# EAGLE library part UBLOXLIB_NEO-M8 (library NEO-M8N+BMP280 Wing)
u-blox NEO GNSS module
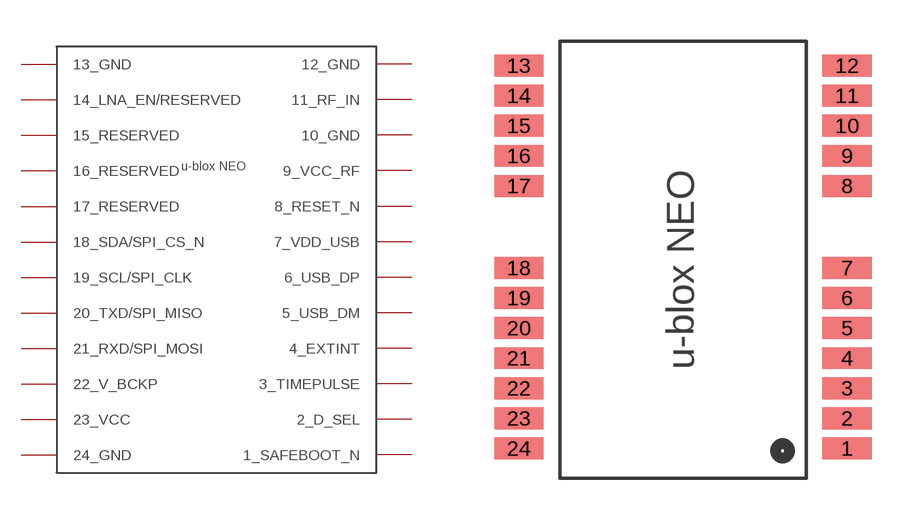
[diagram p2: symbol with the pads of UBLOXLIB_NEO-M8; footprint UBLOXLIB_NEO-M8]

Designator prefix -

## UBLOXLIB_NEO-M8  [UBLOXLIB_NEO-M8]
1  1_SAFEBOOT_N
2  2_D_SEL
3  3_TIMEPULSE
4  4_EXTINT
5  5_USB_DM
6  6_USB_DP
7  7_VDD_USB
8  8_RESET_N
9  9_VCC_RF
10  10_GND
11  11_RF_IN
12  12_GND
13  13_GND
14  14_LNA_EN/RESERVED
15  15_RESERVED
16  16_RESERVED
17  17_RESERVED
18  18_SDA/SPI_CS_N
19  19_SCL/SPI_CLK
20  20_TXD/SPI_MISO
21  21_RXD/SPI_MOSI
22  22_V_BCKP
23  23_VCC
24  24_GND

## Footprint UBLOXLIB_NEO-M8 (pad centres in mm)
u-blox NEO GNSS module
smd 1.8 x 0.8: 1 6,-6.9; 2 6,-5.8; 3 6,-4.7; 4 6,-3.6; 5 6,-2.5; 6 6,-1.4; 7 6,-0.3; 8 6,2.7; 9 6,3.8; 10 6,4.9; 11 6,6; 12 6,7.1; 13 -6,7.1; 14 -6,6; 15 -6,4.9; 16 -6,3.8; 17 -6,2.7; 18 -6,-0.3; 19 -6,-1.4; 20 -6,-2.5; 21 -6,-3.6; 22 -6,-4.7; 23 -6,-5.8; 24 -6,-6.9